# Altium footprint library LT3470.PcbLib: 6 footprints
Each footprint in its own frame and in the unit in brackets; x right, y up, seen from the top. Pads: shape width x height; smd on the part's side, far side on the other; paste and mask are expansions set on the pad; w line width, h text height; cw(c..) or ccw(c..) is an arc to the next point about the centre after c.
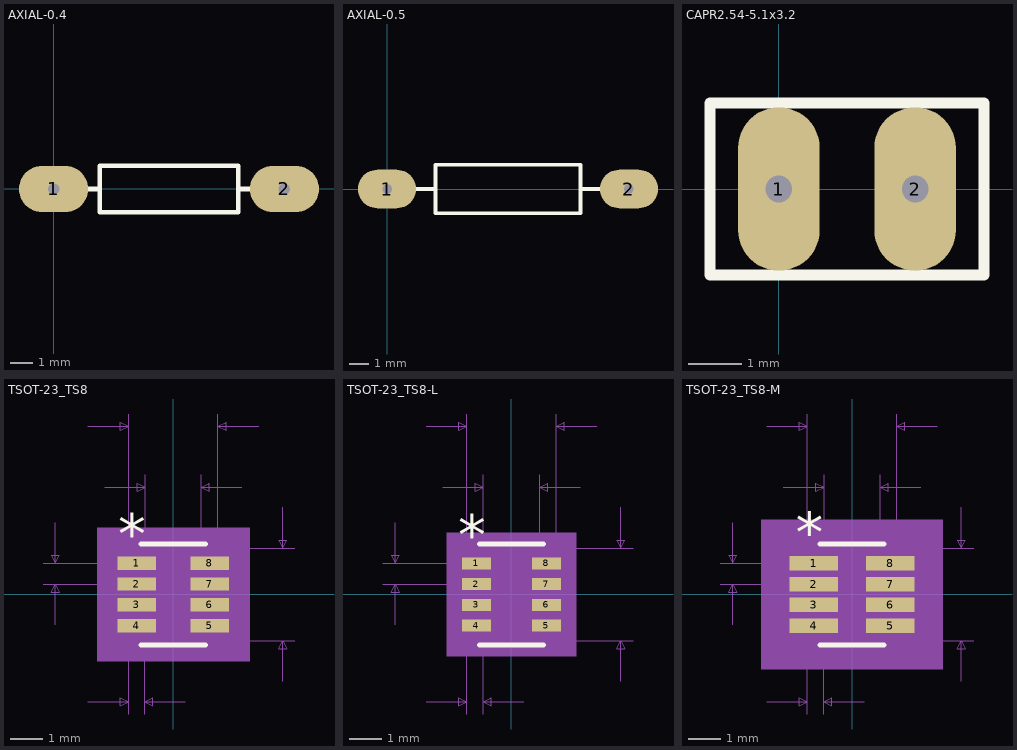
[diagram p0: the footprints below, top view; thin cyan lines are the x and y axes]

## AXIAL-0.4 [mil] "Resistor; 2 Leads"
height 80
pads (2):
  oval 120x80 hole 19.68: 1(0,0) 2(400,0)
Top Overlay:
  lines w7.87: 40,0 80,0 ; 320,0 360,0 ; 80,-40 320,-40 320,40 80,40 80,-40

## AXIAL-0.5 [mil] "Semiconductor Resistor; 2 Leads"
height 100
pads (2):
  oval 120x80 hole 19.68: 1(0,0) 2(500,0)
Top Overlay:
  lines w7.87: 40,0 100,0 ; 400,0 460,0 ; 100,-50 400,-50 400,50 100,50 100,-50

## CAPR2.54-5.1x3.2 [mil] "Capacitor, Ceramic, Thru-Hole, Dipped Radial; Body 5.1 x 3.2 mm (WxT) Pin Spacing 2.54 mm (typ)"
height 236.22
pads (2):
  oval 60x120 hole 19.68: 1(0,0) 2(100,0)
Top Overlay:
  lines w7.87: -50.39,-62.99 150.39,-62.99 150.39,62.99 -50.39,62.99 -50.39,-62.99

## TSOT-23_TS8 [mm]
pads (8):
  rect 1.208x0.416 smd paste+0 mask+0: 1(-1.143,0.975) 2(-1.143,0.325) 3(-1.143,-0.325) 4(-1.143,-0.975) 5(1.143,-0.975) 6(1.143,-0.325) 7(1.143,0.325) 8(1.143,0.975)
Top Overlay:
  lines w0.152: -1.003,-1.575 1.003,-1.575 ; -1.003,1.575 1.003,1.575
  text "*" at -1.714,1.264 h1.27
Mechanical 5:
  region: 2.382,-2.083 -2.382,-2.083 -2.382,2.083 2.382,2.083
Mechanical 7:
  lines w0.025: -4.064,0.325 -1.143,0.325 ; -4.064,0.975 -1.143,0.975 ; -3.683,-0.945 -3.683,0.325 ; -3.683,2.245 -3.683,0.975 ; -2.667,-3.353 -1.397,-3.353 ; -2.667,5.258 -1.397,5.258 ; -2.146,3.353 -0.876,3.353 ; -1.397,-3.734 -1.397,0 -1.397,5.639 ; -0.889,-3.734 -0.889,0 ; -0.876,0 -0.876,3.734 ; 0,-1.448 3.797,-1.448 ; 0,1.448 3.797,1.448 ; 0.381,-3.353 -0.889,-3.353 ; 0.876,0 0.876,3.734 ; 1.397,0 1.397,5.639 ; 2.146,3.353 0.876,3.353 ; 2.667,5.258 1.397,5.258 ; 3.416,-2.718 3.416,-1.448 ; 3.416,2.718 3.416,1.448 ; -3.683,0.325 -3.81,0.071 -3.556,0.071 -3.683,0.325 ; -3.683,0.975 -3.81,1.229 -3.556,1.229 -3.683,0.975 ; -1.397,-3.353 -1.651,-3.226 -1.651,-3.48 -1.397,-3.353 ; -1.397,5.258 -1.651,5.385 -1.651,5.131 -1.397,5.258 ; -0.889,-3.353 -0.635,-3.226 -0.635,-3.48 -0.889,-3.353 ; -0.876,3.353 -1.13,3.48 -1.13,3.226 -0.876,3.353 ; 0.876,3.353 1.13,3.48 1.13,3.226 0.876,3.353 ; 1.397,5.258 1.651,5.385 1.651,5.131 1.397,5.258 ; 3.416,-1.448 3.289,-1.702 3.543,-1.702 3.416,-1.448 ; 3.416,1.448 3.289,1.702 3.543,1.702 3.416,1.448
  text "Default Padstyle: r121_42" at -7.938,-6.528 h1.27
  text "Pin One Padstyle: r121_42" at -7.938,-8.052 h1.27
  text "Alt 1 Padstyle: b152_229h76" at -8.572,-12.624 h1.27
  text "Alt 2 Padstyle: b229_152h76" at -8.572,-14.148 h1.27
  text "0.069in/1.753mm" at -2.381,3.861 h0.64
  text "0.11in/2.794mm" at -2.222,5.766 h0.64
  text "0.114in/2.896mm" at 3.924,-0.318 h0.64
  text "0.026in/0.65mm" at -8.636,0.332 h0.64
  text "0.02in/0.508mm" at -3.365,-4.496 h0.64
Mechanical 13:
  lines w0: -0.305,1.448 ccw(c0,1.448) 0.305,1.448
  lines w0.025: -1.397,-1.153 -1.397,-0.797 -0.876,-0.797 -0.876,-1.153 -1.397,-1.153 ; -1.397,-0.503 -1.397,-0.147 -0.876,-0.147 -0.876,-0.503 -1.397,-0.503 ; -1.397,0.147 -1.397,0.503 -0.876,0.503 -0.876,0.147 -1.397,0.147 ; -1.397,0.797 -1.397,1.153 -0.876,1.153 -0.876,0.797 -1.397,0.797 ; -0.876,-1.448 0.876,-1.448 0.876,1.448 -0.876,1.448 -0.876,-1.448 ; 0.876,-1.153 0.876,-0.797 1.397,-0.797 1.397,-1.153 0.876,-1.153 ; 0.876,-0.503 0.876,-0.147 1.397,-0.147 1.397,-0.503 0.876,-0.503 ; 0.876,0.147 0.876,0.503 1.397,0.503 1.397,0.147 0.876,0.147 ; 0.876,0.797 0.876,1.153 1.397,1.153 1.397,0.797 0.876,0.797
  text "*" at -0.813,0.102 h1.27
Mechanical 15:
  region: -1.13,-1.437 -2.001,-1.437 -2.001,1.437 -1.13,1.437 -1.13,1.702 1.13,1.702 1.13,1.437 2.001,1.437 2.001,-1.437 1.13,-1.437 1.13,-1.702 -1.13,-1.702
  lines w0.152: -2.001,-1.437 -2.001,1.437 -1.13,1.437 -1.13,1.702 1.13,1.702 1.13,1.437 2.001,1.437 2.001,-1.437 1.13,-1.437 1.13,-1.702 -1.13,-1.702 -1.13,-1.437 -2.001,-1.437
3D body: height 0.25, standoff 0, extent 0,0 0.254,0.254

## TSOT-23_TS8-L [mm]
pads (8):
  rect 0.908x0.376 smd paste+0 mask+0: 1(-1.093,0.975) 2(-1.093,0.325) 3(-1.093,-0.325) 4(-1.093,-0.975) 5(1.093,-0.975) 6(1.093,-0.325) 7(1.093,0.325) 8(1.093,0.975)
Top Overlay:
  lines w0.152: -1.003,-1.575 1.003,-1.575 ; -1.003,1.575 1.003,1.575
  text "*" at -1.665,1.224 h1.27
Mechanical 5:
  region: 2.03,-1.93 -2.03,-1.93 -2.03,1.93 2.03,1.93
Mechanical 7:
  lines w0.025: -4.014,0.325 -1.093,0.325 ; -4.014,0.975 -1.093,0.975 ; -3.633,-0.945 -3.633,0.325 ; -3.633,2.245 -3.633,0.975 ; -2.667,-3.353 -1.397,-3.353 ; -2.667,5.258 -1.397,5.258 ; -2.146,3.353 -0.876,3.353 ; -1.397,-3.734 -1.397,0 -1.397,5.639 ; -0.889,-3.734 -0.889,0 ; -0.876,0 -0.876,3.734 ; 0,-1.448 3.797,-1.448 ; 0,1.448 3.797,1.448 ; 0.381,-3.353 -0.889,-3.353 ; 0.876,0 0.876,3.734 ; 1.397,0 1.397,5.639 ; 2.146,3.353 0.876,3.353 ; 2.667,5.258 1.397,5.258 ; 3.416,-2.718 3.416,-1.448 ; 3.416,2.718 3.416,1.448 ; -3.633,0.325 -3.76,0.071 -3.506,0.071 -3.633,0.325 ; -3.633,0.975 -3.76,1.229 -3.506,1.229 -3.633,0.975 ; -1.397,-3.353 -1.651,-3.226 -1.651,-3.48 -1.397,-3.353 ; -1.397,5.258 -1.651,5.385 -1.651,5.131 -1.397,5.258 ; -0.889,-3.353 -0.635,-3.226 -0.635,-3.48 -0.889,-3.353 ; -0.876,3.353 -1.13,3.48 -1.13,3.226 -0.876,3.353 ; 0.876,3.353 1.13,3.48 1.13,3.226 0.876,3.353 ; 1.397,5.258 1.651,5.385 1.651,5.131 1.397,5.258 ; 3.416,-1.448 3.289,-1.702 3.543,-1.702 3.416,-1.448 ; 3.416,1.448 3.289,1.702 3.543,1.702 3.416,1.448
  text "Default Padstyle: r91_38" at -7.62,-6.528 h1.27
  text "Pin One Padstyle: r91_38" at -7.62,-8.052 h1.27
  text "Alt 1 Padstyle: b152_229h76" at -8.572,-12.624 h1.27
  text "Alt 2 Padstyle: b229_152h76" at -8.572,-14.148 h1.27
  text "0.069in/1.753mm" at -2.381,3.861 h0.64
  text "0.11in/2.794mm" at -2.222,5.766 h0.64
  text "0.114in/2.896mm" at 3.924,-0.318 h0.64
  text "0.026in/0.65mm" at -8.586,0.332 h0.64
  text "0.02in/0.508mm" at -3.365,-4.496 h0.64
Mechanical 13:
  lines w0: -0.305,1.448 ccw(c0,1.448) 0.305,1.448
  lines w0.025: -1.397,-1.153 -1.397,-0.797 -0.876,-0.797 -0.876,-1.153 -1.397,-1.153 ; -1.397,-0.503 -1.397,-0.147 -0.876,-0.147 -0.876,-0.503 -1.397,-0.503 ; -1.397,0.147 -1.397,0.503 -0.876,0.503 -0.876,0.147 -1.397,0.147 ; -1.397,0.797 -1.397,1.153 -0.876,1.153 -0.876,0.797 -1.397,0.797 ; -0.876,-1.448 0.876,-1.448 0.876,1.448 -0.876,1.448 -0.876,-1.448 ; 0.876,-1.153 0.876,-0.797 1.397,-0.797 1.397,-1.153 0.876,-1.153 ; 0.876,-0.503 0.876,-0.147 1.397,-0.147 1.397,-0.503 0.876,-0.503 ; 0.876,0.147 0.876,0.503 1.397,0.503 1.397,0.147 0.876,0.147 ; 0.876,0.797 0.876,1.153 1.397,1.153 1.397,0.797 0.876,0.797
  text "*" at -0.813,0.102 h1.27
Mechanical 15:
  region: -0.978,-1.264 -1.649,-1.264 -1.649,1.264 -0.978,1.264 -0.978,1.549 0.978,1.549 0.978,1.264 1.649,1.264 1.649,-1.264 0.978,-1.264 0.978,-1.549 -0.978,-1.549
  lines w0.152: -1.649,-1.264 -1.649,1.264 -0.978,1.264 -0.978,1.549 0.978,1.549 0.978,1.264 1.649,1.264 1.649,-1.264 0.978,-1.264 0.978,-1.549 -0.978,-1.549 -0.978,-1.264 -1.649,-1.264
3D body: height 0.25, standoff 0, extent 0,0 0.254,0.254

## TSOT-23_TS8-M [mm]
pads (8):
  rect 1.508x0.456 smd paste+0 mask+0: 1(-1.193,0.975) 2(-1.193,0.325) 3(-1.193,-0.325) 4(-1.193,-0.975) 5(1.193,-0.975) 6(1.193,-0.325) 7(1.193,0.325) 8(1.193,0.975)
Top Overlay:
  lines w0.152: -1.003,-1.575 1.003,-1.575 ; -1.003,1.575 1.003,1.575
  text "*" at -1.764,1.304 h1.27
Mechanical 5:
  region: 2.836,-2.337 -2.836,-2.337 -2.836,2.337 2.836,2.337
Mechanical 7:
  lines w0.025: -4.114,0.325 -1.193,0.325 ; -4.114,0.975 -1.193,0.975 ; -3.733,-0.945 -3.733,0.325 ; -3.733,2.245 -3.733,0.975 ; -2.667,-3.353 -1.397,-3.353 ; -2.667,5.258 -1.397,5.258 ; -2.146,3.353 -0.876,3.353 ; -1.397,-3.734 -1.397,0 -1.397,5.639 ; -0.889,-3.734 -0.889,0 ; -0.876,0 -0.876,3.734 ; 0,-1.448 3.797,-1.448 ; 0,1.448 3.797,1.448 ; 0.381,-3.353 -0.889,-3.353 ; 0.876,0 0.876,3.734 ; 1.397,0 1.397,5.639 ; 2.146,3.353 0.876,3.353 ; 2.667,5.258 1.397,5.258 ; 3.416,-2.718 3.416,-1.448 ; 3.416,2.718 3.416,1.448 ; -3.733,0.325 -3.86,0.071 -3.606,0.071 -3.733,0.325 ; -3.733,0.975 -3.86,1.229 -3.606,1.229 -3.733,0.975 ; -1.397,-3.353 -1.651,-3.226 -1.651,-3.48 -1.397,-3.353 ; -1.397,5.258 -1.651,5.385 -1.651,5.131 -1.397,5.258 ; -0.889,-3.353 -0.635,-3.226 -0.635,-3.48 -0.889,-3.353 ; -0.876,3.353 -1.13,3.48 -1.13,3.226 -0.876,3.353 ; 0.876,3.353 1.13,3.48 1.13,3.226 0.876,3.353 ; 1.397,5.258 1.651,5.385 1.651,5.131 1.397,5.258 ; 3.416,-1.448 3.289,-1.702 3.543,-1.702 3.416,-1.448 ; 3.416,1.448 3.289,1.702 3.543,1.702 3.416,1.448
  text "Default Padstyle: r151_46" at -7.938,-6.528 h1.27
  text "Pin One Padstyle: r151_46" at -7.938,-8.052 h1.27
  text "Alt 1 Padstyle: b152_229h76" at -8.572,-12.624 h1.27
  text "Alt 2 Padstyle: b229_152h76" at -8.572,-14.148 h1.27
  text "0.069in/1.753mm" at -2.381,3.861 h0.64
  text "0.11in/2.794mm" at -2.222,5.766 h0.64
  text "0.114in/2.896mm" at 3.924,-0.318 h0.64
  text "0.026in/0.65mm" at -8.686,0.332 h0.64
  text "0.02in/0.508mm" at -3.365,-4.496 h0.64
Mechanical 13:
  lines w0: -0.305,1.448 ccw(c0,1.448) 0.305,1.448
  lines w0.025: -1.397,-1.153 -1.397,-0.797 -0.876,-0.797 -0.876,-1.153 -1.397,-1.153 ; -1.397,-0.503 -1.397,-0.147 -0.876,-0.147 -0.876,-0.503 -1.397,-0.503 ; -1.397,0.147 -1.397,0.503 -0.876,0.503 -0.876,0.147 -1.397,0.147 ; -1.397,0.797 -1.397,1.153 -0.876,1.153 -0.876,0.797 -1.397,0.797 ; -0.876,-1.448 0.876,-1.448 0.876,1.448 -0.876,1.448 -0.876,-1.448 ; 0.876,-1.153 0.876,-0.797 1.397,-0.797 1.397,-1.153 0.876,-1.153 ; 0.876,-0.503 0.876,-0.147 1.397,-0.147 1.397,-0.503 0.876,-0.503 ; 0.876,0.147 0.876,0.503 1.397,0.503 1.397,0.147 0.876,0.147 ; 0.876,0.797 0.876,1.153 1.397,1.153 1.397,0.797 0.876,0.797
  text "*" at -0.813,0.102 h1.27
Mechanical 15:
  region: -1.384,-1.711 -2.455,-1.711 -2.455,1.711 -1.384,1.711 -1.384,1.956 1.384,1.956 1.384,1.711 2.455,1.711 2.455,-1.711 1.384,-1.711 1.384,-1.956 -1.384,-1.956
  lines w0.152: -2.455,-1.711 -2.455,1.711 -1.384,1.711 -1.384,1.956 1.384,1.956 1.384,1.711 2.455,1.711 2.455,-1.711 1.384,-1.711 1.384,-1.956 -1.384,-1.956 -1.384,-1.711 -2.455,-1.711
3D body: height 0.25, standoff 0, extent 0,0 0.254,0.254